# EAGLE library part LT3585-0 (library PowerProducts)
LT-Spice library generated with : ltspice.ulp from: D:/Program Files (x86)/LTC/LTspiceIV/lib/sym/PowerProducts/LT3585-1*.asy at 07.10.2012 16:14:08
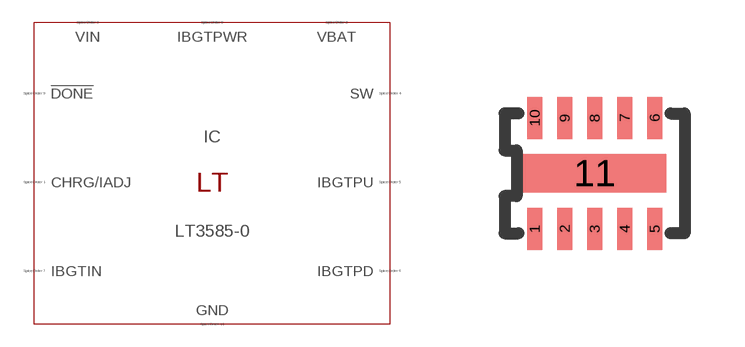
[diagram p76: symbol with the pads of DFN10(DDB); footprint DFN10(DDB)]

Designator prefix IC

## LT3585-0 (SPICEMODEL: LT3585-0.sub; SPICEPREFIX: X; VALUE2: LT3585-0)  [DFN10(DDB)]
1  IBGTIN  pas
2  IBGTPWR  pas
3  GND  pas
4  VIN  pas
5  VBAT  pas
6  !DONE  pas
7  CHRG/IADJ  pas
8  SW  pas
9  IBGTPD  pas
10  IBGTPU  pas
11  GND  pas

## Footprint DFN10(DDB) (pad centres in mm)
Package generated from: DFN10(DDB).asc (!PADS-POWERPCB-V5.0-BASIC! DESIGN DATABASE ASCII FILE 1.0) with :import-pads-powerpcb-v5.ulp Version 1.0.1 at 04.10.2012 14:11:16
smd 0.375 x 1.05: 1 -1.5,-1.387; 2 -0.75,-1.387; 3 0,-1.387; 4 0.75,-1.387; 5 1.5,-1.387; 6 1.5,1.387; 7 0.75,1.387; 8 0,1.387; 9 -0.75,1.387; 10 -1.5,1.387
smd 3.585 x 0.96: 11 0,0